# EAGLE library part LTC1968 (library sonder_b)
The LTC1968 is a true RMS-to-DC converter that uses an innovative delta-sigma computational technique. The benefits of the LTC1968 proprietary architecture, when compared to conventional log-antilog RMS-to-DC converters, are higher linearity and accuracy, bandwidth independent of amplitude and improved temperature behavior. The LTC1968 operates with single-ended or differential input signals and accurately supports crest factors up to 4. Common mode input range is rail-to-rail. Differential input range is 1VPEAK, and offers unprecedented linearity. The LTC1968 allows hassle-free system calibration at any input voltage. The LTC1968 has a rail-to-rail output with a separate output reference pin providing flexible level shifting; it operates on a single power supply from 4.5V to 5.5V. A low power shutdown mode reduces supply current to 0.1?A. The LTC1968 is packaged in the space-saving MSOP package, which is ideal for portable applications.
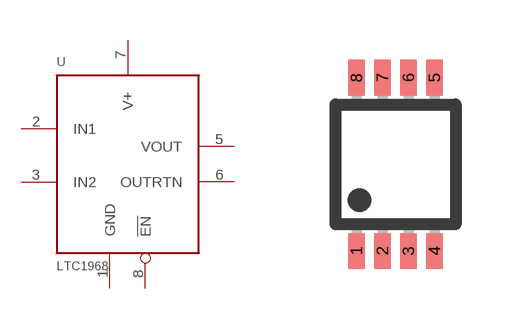
[diagram p5: symbol with the pads of MS8; footprint MS8]

Designator prefix -

## LTC1968C8  [MS8]
1  GND  sup
2  IN1  in
3  IN2  in
5  VOUT  out
6  OUTRTN  out
7  V+  sup
8  !EN

## Footprint MS8 (pad centres in mm)
smd 0.42 x 0.889: 1 -0.975,-2.17; 2 -0.325,-2.17; 3 0.325,-2.171; 4 0.975,-2.17; 5 0.975,2.17; 6 0.325,2.17; 7 -0.325,2.17; 8 -0.975,2.17